# Altium schematic symbol library MIC39102.Schlib: 1 symbol
Pins are listed as number, name and electrical type; pins without a type are passive.

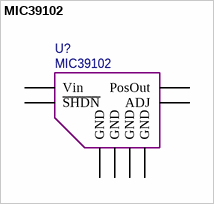
[diagram p0: symbol MIC39102]

## MIC39102
designator U?
pins: 1 ~{SHDN}, 2 Vin, 3 PosOut, 4 ADJ, 5 GND, 6 GND, 7 GND, 8 GND